# Altium integrated library Micron Memory SDRAM.IntLib: 192 symbols (part 36 of 38)
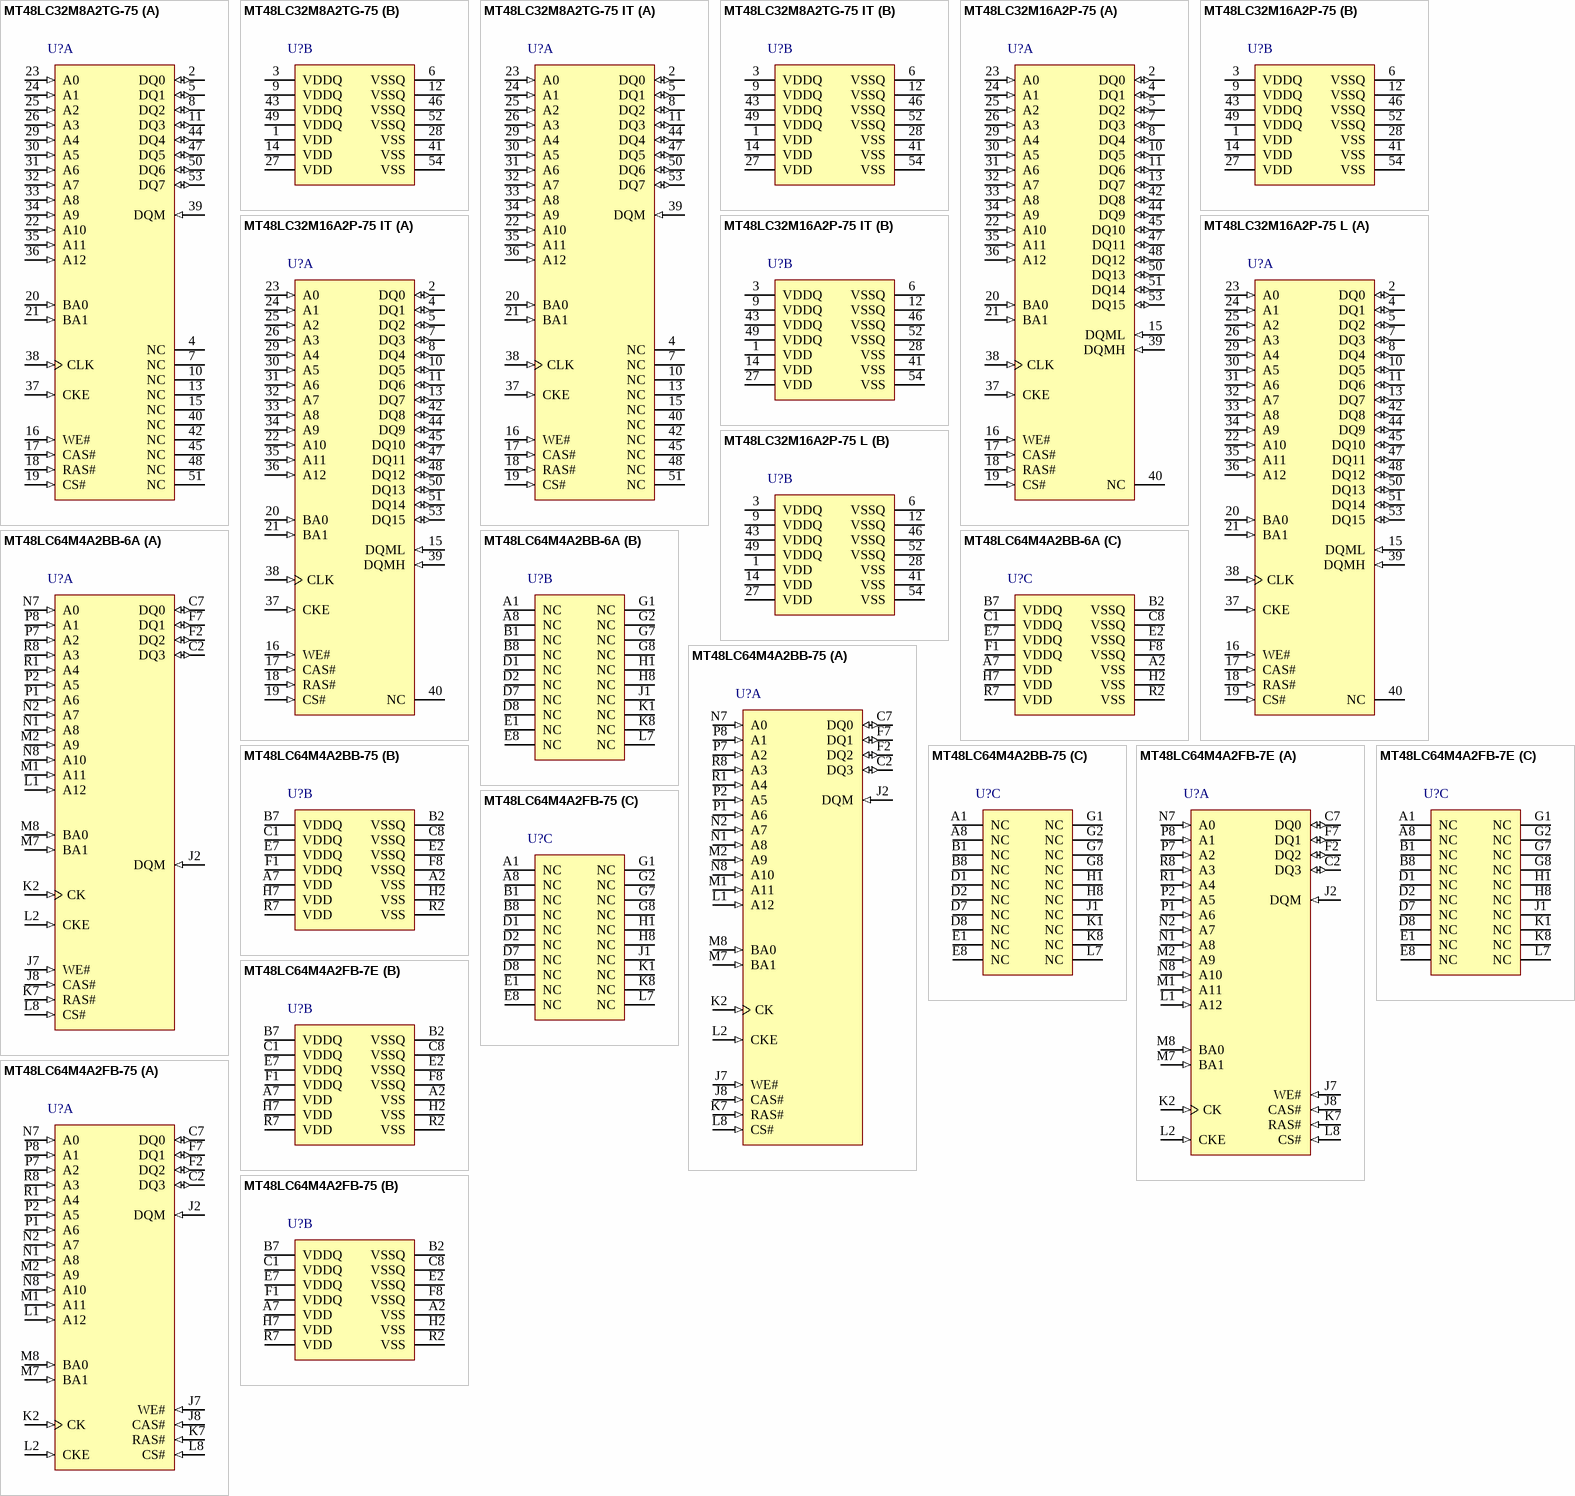
[diagram p55: symbols MT48LC32M8A2TG-75 to MT48LC64M4A2FB-75]

## MT48LC64M4A2BB-6A
designator U?
256Mb PC133 SDR SDRAM, 64Mb x 4, 6ns, 3.3V, 54-Ball FBGA, Pb-Free; Manufacturer: Micron; PartNumber: MT48LC64M4A2BB-6A; CL: CL = 3; Clock Rate: 166 MHz; DatasheetVersion: Rev.Q; PackageVersion: Rev.Q; PackageReference: MICT-BB-60; PackageDescription: 60-Ball Fine-Pitch Ball Grid Array, 16 x 8 mm, Pitch 0.8 mm; Cycle Time: 6ns; Data Rate: PC133; Density: 256Mb; Depth: 64Mb; RoHS: Yes; Voltage: 3.3V; Width: x4; Mounting Technology: Surface Mount; ComponentLink1Description: Manufacturer URL; ComponentLink1URL: http://www.micron.com/; ComponentLink2Description: Datasheet; ComponentLink2URL: http://www.micron.com/~/media/Documents/Products/Data%20Sheet/DRAM/256Mb_sdr.pdf; ComponentLink3Description: Package Specification; ComponentLink3URL: http://www.micron.com/~/media/Documents/Products/Data%20Sheet/DRAM/256Mb_sdr.pdf
footprint MICT-BB-60 (BGA, 60-Balls, Body 16x8mm, Pitch 0.8mm)
part A pins: C2 DQ3 (io) "Data input/output: Data bus for x4.", C7 DQ0 (io) "Data input/output: Data bus for x4.", F2 DQ2 (io) "Data input/output: Data bus for x4.", F7 DQ1 (io) "Data input/output: Data bus for x4.", J2 DQM (in) "Input/output mask: DQM is sampled HIGH and is an input mask signal for write accesses and an output enable signal for read accesses. Input data is masked during a WRITE cycle. The output buffers are High-Z (two-clock (See Datasheet)", J7 WE# (in) "Command inputs: RAS#, CAS#, and WE# (along with CS#) define the command being entered.", J8 CAS# (in) "Command inputs: RAS#, CAS#, and WE# (along with CS#) define the command being entered.", K2 CK (in) "Clock: CLK is driven by the system clock. All SDRAM input signals are sampled on the positive edge of CLK. CLK also increments the internal burst counter and controls the output registers.", K7 RAS# (in) "Command inputs: RAS#, CAS#, and WE# (along with CS#) define the command being entered.", L1 A12 (in) "Address inputs: A[12:0] are sampled during the ACTIVE command (row address A[12:0]) and READ or WRITE command (column address A[9:0] and A11 for x4; A[9:0] for x8; A[8:0] for x16;with A10 defining auto precharge) to select (See Datasheet)", L2 CKE (in) "Clock enable: CKE activates (HIGH) and deactivates (LOW) the CLK signal. Deactivating the clock provides precharge power-down and SELF REFRESH operation (all banks idle), active power-down (row active in any bank), or CLOCK (See Datasheet)", L8 CS# (in) "Chip select: CS# enables (registered LOW) and disables (registered HIGH) the command decoder.All commands are masked when CS# is registered HIGH, but READ/WRITE bursts already in progress will continue, and DQM operation (See Datasheet)", M1 A11 (in) "Address inputs: A[12:0] are sampled during the ACTIVE command (row address A[12:0]) and READ or WRITE command (column address A[9:0] and A11 for x4; A[9:0] for x8; A[8:0] for x16;with A10 defining auto precharge) to select (See Datasheet)", M2 A9 (in) "Address inputs: A[12:0] are sampled during the ACTIVE command (row address A[12:0]) and READ or WRITE command (column address A[9:0] and A11 for x4; A[9:0] for x8; A[8:0] for x16;with A10 defining auto precharge) to select (See Datasheet)", M7 BA1 (in) "Bank address input(s): BA[1:0] define to which bank the ACTIVE, READ, WRITE, or PRECHARGE command is being applied.", M8 BA0 (in) "Bank address input(s): BA[1:0] define to which bank the ACTIVE, READ, WRITE, or PRECHARGE command is being applied.", N1 A8 (in) "Address inputs: A[12:0] are sampled during the ACTIVE command (row address A[12:0]) and READ or WRITE command (column address A[9:0] and A11 for x4; A[9:0] for x8; A[8:0] for x16;with A10 defining auto precharge) to select (See Datasheet)", N2 A7 (in) "Address inputs: A[12:0] are sampled during the ACTIVE command (row address A[12:0]) and READ or WRITE command (column address A[9:0] and A11 for x4; A[9:0] for x8; A[8:0] for x16;with A10 defining auto precharge) to select (See Datasheet)", N7 A0 (in) "Address inputs: A[12:0] are sampled during the ACTIVE command (row address A[12:0]) and READ or WRITE command (column address A[9:0] and A11 for x4; A[9:0] for x8; A[8:0] for x16;with A10 defining auto precharge) to select (See Datasheet)", N8 A10 (in) "Address inputs: A[12:0] are sampled during the ACTIVE command (row address A[12:0]) and READ or WRITE command (column address A[9:0] and A11 for x4; A[9:0] for x8; A[8:0] for x16;with A10 defining auto precharge) to select (See Datasheet)", P1 A6 (in) "Address inputs: A[12:0] are sampled during the ACTIVE command (row address A[12:0]) and READ or WRITE command (column address A[9:0] and A11 for x4; A[9:0] for x8; A[8:0] for x16;with A10 defining auto precharge) to select (See Datasheet)", P2 A5 (in) "Address inputs: A[12:0] are sampled during the ACTIVE command (row address A[12:0]) and READ or WRITE command (column address A[9:0] and A11 for x4; A[9:0] for x8; A[8:0] for x16;with A10 defining auto precharge) to select (See Datasheet)", P7 A2 (in) "Address inputs: A[12:0] are sampled during the ACTIVE command (row address A[12:0]) and READ or WRITE command (column address A[9:0] and A11 for x4; A[9:0] for x8; A[8:0] for x16;with A10 defining auto precharge) to select (See Datasheet)", P8 A1 (in) "Address inputs: A[12:0] are sampled during the ACTIVE command (row address A[12:0]) and READ or WRITE command (column address A[9:0] and A11 for x4; A[9:0] for x8; A[8:0] for x16;with A10 defining auto precharge) to select (See Datasheet)", R1 A4 (in) "Address inputs: A[12:0] are sampled during the ACTIVE command (row address A[12:0]) and READ or WRITE command (column address A[9:0] and A11 for x4; A[9:0] for x8; A[8:0] for x16;with A10 defining auto precharge) to select (See Datasheet)", R8 A3 (in) "Address inputs: A[12:0] are sampled during the ACTIVE command (row address A[12:0]) and READ or WRITE command (column address A[9:0] and A11 for x4; A[9:0] for x8; A[8:0] for x16;with A10 defining auto precharge) to select (See Datasheet)"
part B pins: A1 NC "These should be left unconnected. For x4 and x8 parts, G1 is a no connect, but may be used as A12 in future designs.", A8 NC "These should be left unconnected. For x4 and x8 parts, G1 is a no connect, but may be used as A12 in future designs.", B1 NC "These should be left unconnected. For x4 and x8 parts, G1 is a no connect, but may be used as A12 in future designs.", B8 NC "These should be left unconnected. For x4 and x8 parts, G1 is a no connect, but may be used as A12 in future designs.", D1 NC "These should be left unconnected. For x4 and x8 parts, G1 is a no connect, but may be used as A12 in future designs.", D2 NC "These should be left unconnected. For x4 and x8 parts, G1 is a no connect, but may be used as A12 in future designs.", D7 NC "These should be left unconnected. For x4 and x8 parts, G1 is a no connect, but may be used as A12 in future designs.", D8 NC "These should be left unconnected. For x4 and x8 parts, G1 is a no connect, but may be used as A12 in future designs.", E1 NC "These should be left unconnected. For x4 and x8 parts, G1 is a no connect, but may be used as A12 in future designs.", E8 NC "These should be left unconnected. For x4 and x8 parts, G1 is a no connect, but may be used as A12 in future designs.", G1 NC "These should be left unconnected. For x4 and x8 parts, G1 is a no connect, but may be used as A12 in future designs.", G2 NC "These should be left unconnected. For x4 and x8 parts, G1 is a no connect, but may be used as A12 in future designs.", G7 NC "These should be left unconnected. For x4 and x8 parts, G1 is a no connect, but may be used as A12 in future designs.", G8 NC "These should be left unconnected. For x4 and x8 parts, G1 is a no connect, but may be used as A12 in future designs.", H1 NC "These should be left unconnected. For x4 and x8 parts, G1 is a no connect, but may be used as A12 in future designs.", H8 NC "These should be left unconnected. For x4 and x8 parts, G1 is a no connect, but may be used as A12 in future designs.", J1 NC "These should be left unconnected. For x4 and x8 parts, G1 is a no connect, but may be used as A12 in future designs.", K1 NC "These should be left unconnected. For x4 and x8 parts, G1 is a no connect, but may be used as A12 in future designs.", K8 NC "These should be left unconnected. For x4 and x8 parts, G1 is a no connect, but may be used as A12 in future designs.", L7 NC "These should be left unconnected. For x4 and x8 parts, G1 is a no connect, but may be used as A12 in future designs."
part C pins: A2 VSS (power) "Ground.", A7 VDD (power) "Power supply: +3.3V +/-0.3V.", B2 VSSQ (power) "DQ ground: DQ ground to the die for improved noise immunity.", B7 VDDQ (power) "DQ power: DQ power to the die for improved noise immunity.", C1 VDDQ (power) "DQ power: DQ power to the die for improved noise immunity.", C8 VSSQ (power) "DQ ground: DQ ground to the die for improved noise immunity.", E2 VSSQ (power) "DQ ground: DQ ground to the die for improved noise immunity.", E7 VDDQ (power) "DQ power: DQ power to the die for improved noise immunity.", F1 VDDQ (power) "DQ power: DQ power to the die for improved noise immunity.", F8 VSSQ (power) "DQ ground: DQ ground to the die for improved noise immunity.", H2 VSS (power) "Ground.", H7 VDD (power) "Power supply: +3.3V +/-0.3V.", R2 VSS (power) "Ground.", R7 VDD (power) "Power supply: +3.3V +/-0.3V."

## MT48LC64M4A2BB-75
designator U?
256Mb PC133 SDR SDRAM, 64Mb x 4, 7.5ns, 3.3V, 0 to 70 degC, 60-Ball FBGA, Pb-Free; Manufacturer: Micron; PartNumber: MT48LC64M4A2BB-75; CL: CL = 3; Clock Rate: 133 MHz; Op. Temp.: 0C to +70C; DatasheetVersion: Rev.Q; PackageVersion: Rev.Q; PackageReference: MICT-BB-60; PackageDescription: 60-Ball Fine-Pitch Ball Grid Array, 16 x 8 mm, Pitch 0.8 mm; Cycle Time: 7.5ns; Data Rate: PC133; Density: 256Mb; Depth: 64Mb; RoHS: Yes; Voltage: 3.3V; Width: x4; Mounting Technology: Surface Mount; ComponentLink1Description: Manufacturer URL; ComponentLink1URL: http://www.micron.com/; ComponentLink2Description: Datasheet; ComponentLink2URL: http://www.micron.com/~/media/Documents/Products/Data%20Sheet/DRAM/256Mb_sdr.pdf; ComponentLink3Description: Package Specification; ComponentLink3URL: http://www.micron.com/~/media/Documents/Products/Data%20Sheet/DRAM/256Mb_sdr.pdf
footprint MICT-BB-60 (BGA, 60-Balls, Body 16x8mm, Pitch 0.8mm)
part A pins: C2 DQ3 (io) "Data input/output: Data bus for x4.", C7 DQ0 (io) "Data input/output: Data bus for x4.", F2 DQ2 (io) "Data input/output: Data bus for x4.", F7 DQ1 (io) "Data input/output: Data bus for x4.", J2 DQM (in) "Input/output mask: DQM is sampled HIGH and is an input mask signal for write accesses and an output enable signal for read accesses. Input data is masked during a WRITE cycle. The output buffers are High-Z (two-clock (See Datasheet)", J7 WE# (in) "Command inputs: RAS#, CAS#, and WE# (along with CS#) define the command being entered.", J8 CAS# (in) "Command inputs: RAS#, CAS#, and WE# (along with CS#) define the command being entered.", K2 CK (in) "Clock: CLK is driven by the system clock. All SDRAM input signals are sampled on the positive edge of CLK. CLK also increments the internal burst counter and controls the output registers.", K7 RAS# (in) "Command inputs: RAS#, CAS#, and WE# (along with CS#) define the command being entered", L1 A12 (in) "Address inputs: A[12:0] are sampled during the ACTIVE command (row address A[12:0]) and READ or WRITE command (column address A[9:0] and A11 for x4; A[9:0] for x8; A[8:0] for x16; with A10 defining auto precharge) to select (See Datasheet)", L2 CKE (in) "Clock enable: CKE activates (HIGH) and deactivates (LOW) the CLK signal. Deactivating the clock provides precharge power-down and SELF REFRESH operation (all banks idle), active power-down (row active in any bank), or CLOCK (See Datasheet)", L8 CS# (in) "Chip select: CS# enables (registered LOW) and disables (registered HIGH) the command decod er. All commands are masked when CS# is registered HIGH, but READ/WRITE bursts already in progress will continue, and DQM operation (See Datasheet)", M1 A11 (in) "Address inputs: A[12:0] are sampled during the ACTIVE command (row address A[12:0]) and READ or WRITE command (column address A[9:0] and A11 for x4; A[9:0] for x8; A[8:0] for x16; with A10 defining auto precharge) to select (See Datasheet)", M2 A9 (in) "Address inputs: A[12:0] are sampled during the ACTIVE command (row address A[12:0]) and READ or WRITE command (column address A[9:0] and A11 for x4; A[9:0] for x8; A[8:0] for x16; with A10 defining auto precharge) to select (See Datasheet)", M7 BA1 (in) "Bank address input(s): BA[1:0] define to which bank the ACTIVE, READ, WRITE, or PRECHARGE command is being applied.", M8 BA0 (in) "Bank address input(s): BA[1:0] define to which bank the ACTIVE, READ, WRITE, or PRECHARGE command is being applied.", N1 A8 (in) "Address inputs: A[12:0] are sampled during the ACTIVE command (row address A[12:0]) and READ or WRITE command (column address A[9:0] and A11 for x4; A[9:0] for x8; A[8:0] for x16; with A10 defining auto precharge) to select (See Datasheet)", N2 A7 (in) "Address inputs: A[12:0] are sampled during the ACTIVE command (row address A[12:0]) and READ or WRITE command (column address A[9:0] and A11 for x4; A[9:0] for x8; A[8:0] for x16; with A10 defining auto precharge) to select (See Datasheet)", N7 A0 (in) "Address inputs: A[12:0] are sampled during the ACTIVE command (row address A[12:0]) and READ or WRITE command (column address A[9:0] and A11 for x4; A[9:0] for x8; A[8:0] for x16; with A10 defining auto precharge) to select (See Datasheet)", N8 A10 (in) "Address inputs: A[12:0] are sampled during the ACTIVE command (row address A[12:0]) and READ or WRITE command (column address A[9:0] and A11 for x4; A[9:0] for x8; A[8:0] for x16; with A10 defining auto precharge) to select (See Datasheet)", P1 A6 (in) "Address inputs: A[12:0] are sampled during the ACTIVE command (row address A[12:0]) and READ or WRITE command (column address A[9:0] and A11 for x4; A[9:0] for x8; A[8:0] for x16; with A10 defining auto precharge) to select (See Datasheet)", P2 A5 (in) "Address inputs: A[12:0] are sampled during the ACTIVE command (row address A[12:0]) and READ or WRITE command (column address A[9:0] and A11 for x4; A[9:0] for x8; A[8:0] for x16; with A10 defining auto precharge) to select (See Datasheet)", P7 A2 (in) "Address inputs: A[12:0] are sampled during the ACTIVE command (row address A[12:0]) and READ or WRITE command (column address A[9:0] and A11 for x4; A[9:0] for x8; A[8:0] for x16; with A10 defining auto precharge) to select (See Datasheet)", P8 A1 (in) "Address inputs: A[12:0] are sampled during the ACTIVE command (row address A[12:0]) and READ or WRITE command (column address A[9:0] and A11 for x4; A[9:0] for x8; A[8:0] for x16; with A10 defining auto precharge) to select (See Datasheet)", R1 A4 (in) "Address inputs: A[12:0] are sampled during the ACTIVE command (row address A[12:0]) and READ or WRITE command (column address A[9:0] and A11 for x4; A[9:0] for x8; A[8:0] for x16; with A10 defining auto precharge) to select (See Datasheet)", R8 A3 (in) "Address inputs: A[12:0] are sampled during the ACTIVE command (row address A[12:0]) and READ or WRITE command (column address A[9:0] and A11 for x4; A[9:0] for x8; A[8:0] for x16; with A10 defining auto precharge) to select (See Datasheet)"
part B pins: A2 VSS (power) "Ground.", A7 VDD (power) "Power supply: +3.3V +/-0.3V.", B2 VSSQ (power) "DQ ground: DQ ground to the die for improved noise immunity.", B7 VDDQ (power) "DQ power: DQ power to the die for improved noise immunity.", C1 VDDQ (power) "DQ power: DQ power to the die for improved noise immunity.", C8 VSSQ (power) "DQ ground: DQ ground to the die for improved noise immunity.", E2 VSSQ (power) "DQ ground: DQ ground to the die for improved noise immunity.", E7 VDDQ (power) "DQ power: DQ power to the die for improved noise immunity.", F1 VDDQ (power) "DQ power: DQ power to the die for improved noise immunity.", F8 VSSQ (power) "DQ ground: DQ ground to the die for improved noise immunity", H2 VSS (power) "Ground.", H7 VDD (power) "Power supply: +3.3V +/-0.3V.", R2 VSS (power) "Ground.", R7 VDD (power) "Power supply: +3.3V +/-0.3V."
part C pins: A1 NC "No connect for x16, x8, x4: These pins should be left unconnected", A8 NC "No connect for x16, x8, x4: These pins should be left unconnected.", B1 NC "No connect for x16, x8, x4: These pins should be left unconnected.", B8 NC "No connect for x16, x8, x4: These pins should be left unconnected.", D1 NC "No connect for x16, x8, x4: These pins should be left unconnected.", D2 NC "No connect for x16, x8, x4: These pins should be left unconnected.", D7 NC "No connect for x16, x8, x4: These pins should be left unconnected.", D8 NC "No connect for x16, x8, x4: These pins should be left unconnected.", E1 NC "No connect for x16, x8, x4: These pins should be left unconnected.", E8 NC "No connect for x16, x8, x4: These pins should be left unconnected.", G1 NC "No connect for x16, x8, x4: These pins should be left unconnected.", G2 NC "No connect for x16, x8, x4: These pins should be left unconnected.", G7 NC "No connect for x16, x8, x4: These pins should be left unconnected.", G8 NC "No connect for x16, x8, x4: These pins should be left unconnected.", H1 NC "No connect for x16, x8, x4: These pins should be left unconnected.", H8 NC "No connect for x16, x8, x4: These pins should be left unconnected.", J1 NC "No connect for x16, x8, x4: These pins should be left unconnected.", K1 NC "No connect for x16, x8, x4: These pins should be left unconnected.", K8 NC "No connect for x16, x8, x4: These pins should be left unconnected.", L7 NC "No connect for x16, x8, x4: These pins should be left unconnected."

## MT48LC64M4A2FB-7E
designator U?
256Mb PC133 SDR SDRAM, 64Mb x 4, 7.5ns, 3.3V, 0 to 70 degC, 60-Ball FBGA; Manufacturer: Micron; PartNumber: MT48LC64M4A2FB-7E; CL: CL = 2; Clock Rate: 133 MHz; Op. Temp.: 0C to +70C; DatasheetVersion: Rev.Q; PackageVersion: Rev.Q; PackageReference: MICT-FB-60; PackageDescription: 60-Ball Fine-Pitch Ball Grid Array, 16 x 8 mm, Pitch 0.8 mm; Cycle Time: 7.5ns; Data Rate: PC133; Density: 256Mb; Depth: 64Mb; RoHS: 5/6; Voltage: 3.3V; Width: x4; Mounting Technology: Surface Mount; ComponentLink1Description: Manufacturer URL; ComponentLink1URL: http://www.micron.com/; ComponentLink2Description: Datasheet; ComponentLink2URL: http://www.micron.com/~/media/Documents/Products/Data%20Sheet/DRAM/256Mb_sdr.pdf; ComponentLink3Description: Package Specification; ComponentLink3URL: http://www.micron.com/~/media/Documents/Products/Data%20Sheet/DRAM/256Mb_sdr.pdf
footprint MICT-FB-60 (BGA, 60-Balls, Body 16x8mm, Pitch 0.8mm)
part A pins: C2 DQ3 (io) "Data input/output: Data bus for x4.", C7 DQ0 (io) "Data input/output: Data bus for x4.", F2 DQ2 (io) "Data input/output: Data bus for x4.", F7 DQ1 (io) "Data input/output: Data bus for x4.", J2 DQM (in) "Input/output mask: DQM is sampled HIGH and is an input mask signal for write accesses and an output enable signal for read accesses. Input data is masked during a WRITE cycle. The output buffers are High-Z (two-clock (See Datasheet)", J7 WE# (in) "Command inputs: RAS#, CAS#, and WE# (along with CS#) define the command being entered.", J8 CAS# (in) "Command inputs: RAS#, CAS#, and WE# (along with CS#) define the command being entered.", K2 CK (in) "Clock: CLK is driven by the system clock. All SDRAM input signals are sampled on the positive edge of CLK. CLK also increments the internal burst counter and controls the output registers.", K7 RAS# (in) "Command inputs: RAS#, CAS#, and WE# (along with CS#) define the command being entered", L1 A12 (in) "Address inputs: A[12:0] are sampled during the ACTIVE command (row address A[12:0]) and READ or WRITE command (column address A[9:0] and A11 for x4; A[9:0] for x8; A[8:0] for x16; with A10 defining auto precharge) to select (See Datasheet)", L2 CKE (in) "Clock enable: CKE activates (HIGH) and deactivates (LOW) the CLK signal. Deactivating the clock provides precharge power-down and SELF REFRESH operation (all banks idle), active power-down (row active in any bank), or CLOCK (See Datasheet)", L8 CS# (in) "Chip select: CS# enables (registered LOW) and disables (registered HIGH) the command decoder. All commands are masked when CS# is registered HIGH, but READ/WRITE bursts already in progress will continue, and DQM operation (See Datasheet)", M1 A11 (in) "Address inputs: A[12:0] are sampled during the ACTIVE command (row address A[12:0]) and READ or WRITE command (column address A[9:0] and A11 for x4; A[9:0] for x8; A[8:0] for x16; with A10 defining auto precharge) to select (See Datasheet)", M2 A9 (in) "Address inputs: A[12:0] are sampled during the ACTIVE command (row address A[12:0]) and READ or WRITE command (column address A[9:0] and A11 for x4; A[9:0] for x8; A[8:0] for x16; with A10 defining auto precharge) to select (See Datasheet)", M7 BA1 (in) "Bank address input(s): BA[1:0] define to which bank the ACTIVE, READ, WRITE, or PRECHARGE command is being applied.", M8 BA0 (in) "Bank address input(s): BA[1:0] define to which bank the ACTIVE, READ, WRITE, or PRECHARGE command is being applied.", N1 A8 (in) "Address inputs: A[12:0] are sampled during the ACTIVE command (row address A[12:0]) and READ or WRITE command (column address A[9:0] and A11 for x4; A[9:0] for x8; A[8:0] for x16; with A10 defining auto precharge) to select (See Datasheet)", N2 A7 (in) "Address inputs: A[12:0] are sampled during the ACTIVE command (row address A[12:0]) and READ or WRITE command (column address A[9:0] and A11 for x4; A[9:0] for x8; A[8:0] for x16; with A10 defining auto precharge) to select (See Datasheet)", N7 A0 (in) "Address inputs: A[12:0] are sampled during the ACTIVE command (row address A[12:0]) and READ or WRITE command (column address A[9:0] and A11 for x4; A[9:0] for x8; A[8:0] for x16; with A10 defining auto precharge) to select (See Datasheet)", N8 A10 (in) "Address inputs: A[12:0] are sampled during the ACTIVE command (row address A[12:0]) and READ or WRITE command (column address A[9:0] and A11 for x4; A[9:0] for x8; A[8:0] for x16; with A10 defining auto precharge) to select (See Datasheet)", P1 A6 (in) "Address inputs: A[12:0] are sampled during the ACTIVE command (row address A[12:0]) and READ or WRITE command (column address A[9:0] and A11 for x4; A[9:0] for x8; A[8:0] for x16; with A10 defining auto precharge) to select (See Datasheet)", P2 A5 (in) "Address inputs: A[12:0] are sampled during the ACTIVE command (row address A[12:0]) and READ or WRITE command (column address A[9:0] and A11 for x4; A[9:0] for x8; A[8:0] for x16; with A10 defining auto precharge) to select (See Datasheet)", P7 A2 (in) "Address inputs: A[12:0] are sampled during the ACTIVE command (row address A[12:0]) and READ or WRITE command (column address A[9:0] and A11 for x4; A[9:0] for x8; A[8:0] for x16; with A10 defining auto precharge) to select (See Datasheet)", P8 A1 (in) "Address inputs: A[12:0] are sampled during the ACTIVE command (row address A[12:0]) and READ or WRITE command (column address A[9:0] and A11 for x4; A[9:0] for x8; A[8:0] for x16; with A10 defining auto precharge) to select (See Datasheet)", R1 A4 (in) "Address inputs: A[12:0] are sampled during the ACTIVE command (row address A[12:0]) and READ or WRITE command (column address A[9:0] and A11 for x4; A[9:0] for x8; A[8:0] for x16; with A10 defining auto precharge) to select (See Datasheet)", R8 A3 (in) "Address inputs: A[12:0] are sampled during the ACTIVE command (row address A[12:0]) and READ or WRITE command (column address A[9:0] and A11 for x4; A[9:0] for x8; A[8:0] for x16; with A10 defining auto precharge) to select (See Datasheet)"
part B pins: A2 VSS (power) "Ground.", A7 VDD (power) "Power supply: +3.3V +/-0.3V.", B2 VSSQ (power) "DQ ground: DQ ground to the die for improved noise immunity", B7 VDDQ (power) "DQ power: DQ power to the die for improved noise immunity.", C1 VDDQ (power) "DQ power: DQ power to the die for improved noise immunity.", C8 VSSQ (power) "DQ ground: DQ ground to the die for improved noise immunity.", E2 VSSQ (power) "DQ ground: DQ ground to the die for improved noise immunity.", E7 VDDQ (power) "DQ power: DQ power to the die for improved noise immunity.", F1 VDDQ (power) "DQ power: DQ power to the die for improved noise immunity.", F8 VSSQ (power) "DQ ground: DQ ground to the die for improved noise immunity", H2 VSS (power) "Ground.", H7 VDD (power) "Power supply: +3.3V +/-0.3V.", R2 VSS (power) "Ground.", R7 VDD (power) "Power supply: +3.3V +/-0.3V."
part C pins: A1 NC "These should be left unconnected. For x4 and x8 parts, G1 is a no connect, but may be used as A12 in future designs.", A8 NC "These should be left unconnected. For x4 and x8 parts, G1 is a no connect, but may be used as A12 in future designs.", B1 NC "These should be left unconnected. For x4 and x8 parts, G1 is a no connect, but may be used as A12 in future designs.", B8 NC "These should be left unconnected. For x4 and x8 parts, G1 is a no connect, but may be used as A12 in future designs.", D1 NC "These should be left unconnected. For x4 and x8 parts, G1 is a no connect, but may be used as A12 in future designs.", D2 NC "These should be left unconnected. For x4 and x8 parts, G1 is a no connect, but may be used as A12 in future designs.", D7 NC "These should be left unconnected. For x4 and x8 parts, G1 is a no connect, but may be used as A12 in future designs.", D8 NC "These should be left unconnected. For x4 and x8 parts, G1 is a no connect, but may be used as A12 in future designs.", E1 NC "These should be left unconnected. For x4 and x8 parts, G1 is a no connect, but may be used as A12 in future designs.", E8 NC "These should be left unconnected. For x4 and x8 parts, G1 is a no connect, but may be used as A12 in future designs.", G1 NC "These should be left unconnected. For x4 and x8 parts, G1 is a no connect, but may be used as A12 in future designs.", G2 NC "These should be left unconnected. For x4 and x8 parts, G1 is a no connect, but may be used as A12 in future designs.", G7 NC "These should be left unconnected. For x4 and x8 parts, G1 is a no connect, but may be used as A12 in future designs.", G8 NC "These should be left unconnected. For x4 and x8 parts, G1 is a no connect, but may be used as A12 in future designs.", H1 NC "These should be left unconnected. For x4 and x8 parts, G1 is a no connect, but may be used as A12 in future designs.", H8 NC "These should be left unconnected. For x4 and x8 parts, G1 is a no connect, but may be used as A12 in future designs.", J1 NC "These should be left unconnected. For x4 and x8 parts, G1 is a no connect, but may be used as A12 in future designs.", K1 NC "These should be left unconnected. For x4 and x8 parts, G1 is a no connect, but may be used as A12 in future designs.", K8 NC "These should be left unconnected. For x4 and x8 parts, G1 is a no connect, but may be used as A12 in future designs.", L7 NC "These should be left unconnected. For x4 and x8 parts, G1 is a no connect, but may be used as A12 in future designs."

## MT48LC64M4A2FB-75
designator U?
256Mb PC133 SDR SDRAM, 64Mb x 4, 7.5ns, 3.3V, 0 to 70 degC, 60-Ball FBGA; Manufacturer: Micron; PartNumber: MT48LC64M4A2FB-75; CL: CL = 3; Clock Rate: 133 MHz; Op. Temp.: 0C to +70C; DatasheetVersion: Rev.Q; PackageVersion: Rev.Q; PackageReference: MICT-FB-60; PackageDescription: 60-Ball Fine-Pitch Ball Grid Array, 16 x 8 mm, Pitch 0.8 mm; Cycle Time: 7.5ns; Data Rate: PC133; Density: 256Mb; Depth: 64Mb; RoHS: 5/6; Voltage: 3.3V; Width: x4; Mounting Technology: Surface Mount; ComponentLink1Description: Manufacturer URL; ComponentLink1URL: http://www.micron.com/; ComponentLink2Description: Datasheet; ComponentLink2URL: http://www.micron.com/~/media/Documents/Products/Data%20Sheet/DRAM/256Mb_sdr.pdf; ComponentLink3Description: Package Specification; ComponentLink3URL: http://www.micron.com/~/media/Documents/Products/Data%20Sheet/DRAM/256Mb_sdr.pdf
footprint MICT-FB-60 (BGA, 60-Balls, Body 16x8mm, Pitch 0.8mm)
part A pins: C2 DQ3 (io) "Data input/output: Data bus for x4.", C7 DQ0 (io) "Data input/output: Data bus for x4.", F2 DQ2 (io) "Data input/output: Data bus for x4.", F7 DQ1 (io) "Data input/output: Data bus for x4.", J2 DQM (in) "Input/output mask: DQM is sampled HIGH and is an input mask signal for write accesses and an output enable signal for read accesses. Input data is masked during a WRITE cycle. The output buffers are High-Z (two-clock (See Datasheet)", J7 WE# (in) "Command inputs: RAS#, CAS#, and WE# (along with CS#) define the command being entered.", J8 CAS# (in) "Command inputs: RAS#, CAS#, and WE# (along with CS#) define the command being entered.", K2 CK (in) "Clock: CLK is driven by the system clock. All SDRAM input signals are sampled on the positive edge of CLK. CLK also increments the internal burst counter and controls the output registers.", K7 RAS# (in) "Command inputs: RAS#, CAS#, and WE# (along with CS#) define the command being entered", L1 A12 (in) "Address inputs: A[12:0] are sampled during the ACTIVE command (row address A[12:0]) and READ or WRITE command (column address A[9:0] and A11 for x4; A[9:0] for x8; A[8:0] for x16; with A10 defining auto precharge) to select (See Datasheet)", L2 CKE (in) "Clock enable: CKE activates (HIGH) and deactivates (LOW) the CLK signal. Deactivating the clock provides precharge power-down and SELF REFRESH operation (all banks idle), active power-down (row active in any bank), or CLOCK (See Datasheet)", L8 CS# (in) "Chip select: CS# enables (registered LOW) and disables (registered HIGH) the command decoder. All commands are masked when CS# is registered HIGH, but READ/WRITE bursts already in progress will continue, and DQM operation (See Datasheet)", M1 A11 (in) "Address inputs: A[12:0] are sampled during the ACTIVE command (row address A[12:0]) and READ or WRITE command (column address A[9:0] and A11 for x4; A[9:0] for x8; A[8:0] for x16; with A10 defining auto precharge) to select (See Datasheet)", M2 A9 (in) "Address inputs: A[12:0] are sampled during the ACTIVE command (row address A[12:0]) and READ or WRITE command (column address A[9:0] and A11 for x4; A[9:0] for x8; A[8:0] for x16; with A10 defining auto precharge) to select (See Datasheet)", M7 BA1 (in) "Bank address input(s): BA[1:0] define to which bank the ACTIVE, READ, WRITE, or PRECHARGE command is being applied.", M8 BA0 (in) "Bank address input(s): BA[1:0] define to which bank the ACTIVE, READ, WRITE, or PRECHARGE command is being applied.", N1 A8 (in) "Address inputs: A[12:0] are sampled during the ACTIVE command (row address A[12:0]) and READ or WRITE command (column address A[9:0] and A11 for x4; A[9:0] for x8; A[8:0] for x16; with A10 defining auto precharge) to select (See Datasheet)", N2 A7 (in) "Address inputs: A[12:0] are sampled during the ACTIVE command (row address A[12:0]) and READ or WRITE command (column address A[9:0] and A11 for x4; A[9:0] for x8; A[8:0] for x16; with A10 defining auto precharge) to select (See Datasheet)", N7 A0 (in) "Address inputs: A[12:0] are sampled during the ACTIVE command (row address A[12:0]) and READ or WRITE command (column address A[9:0] and A11 for x4; A[9:0] for x8; A[8:0] for x16; with A10 defining auto precharge) to select (See Datasheet)", N8 A10 (in) "Address inputs: A[12:0] are sampled during the ACTIVE command (row address A[12:0]) and READ or WRITE command (column address A[9:0] and A11 for x4; A[9:0] for x8; A[8:0] for x16; with A10 defining auto precharge) to select (See Datasheet)", P1 A6 (in) "Address inputs: A[12:0] are sampled during the ACTIVE command (row address A[12:0]) and READ or WRITE command (column address A[9:0] and A11 for x4; A[9:0] for x8; A[8:0] for x16; with A10 defining auto precharge) to select (See Datasheet)", P2 A5 (in) "Address inputs: A[12:0] are sampled during the ACTIVE command (row address A[12:0]) and READ or WRITE command (column address A[9:0] and A11 for x4; A[9:0] for x8; A[8:0] for x16; with A10 defining auto precharge) to select (See Datasheet)", P7 A2 (in) "Address inputs: A[12:0] are sampled during the ACTIVE command (row address A[12:0]) and READ or WRITE command (column address A[9:0] and A11 for x4; A[9:0] for x8; A[8:0] for x16; with A10 defining auto precharge) to select (See Datasheet)", P8 A1 (in) "Address inputs: A[12:0] are sampled during the ACTIVE command (row address A[12:0]) and READ or WRITE command (column address A[9:0] and A11 for x4; A[9:0] for x8; A[8:0] for x16; with A10 defining auto precharge) to select (See Datasheet)", R1 A4 (in) "Address inputs: A[12:0] are sampled during the ACTIVE command (row address A[12:0]) and READ or WRITE command (column address A[9:0] and A11 for x4; A[9:0] for x8; A[8:0] for x16; with A10 defining auto precharge) to select (See Datasheet)", R8 A3 (in) "Address inputs: A[12:0] are sampled during the ACTIVE command (row address A[12:0]) and READ or WRITE command (column address A[9:0] and A11 for x4; A[9:0] for x8; A[8:0] for x16; with A10 defining auto precharge) to select (See Datasheet)"
part B pins: A2 VSS (power) "Ground.", A7 VDD (power) "Power supply: +3.3V +/-0.3V.", B2 VSSQ (power) "DQ ground: DQ ground to the die for improved noise immunity", B7 VDDQ (power) "DQ power: DQ power to the die for improved noise immunity.", C1 VDDQ (power) "DQ power: DQ power to the die for improved noise immunity.", C8 VSSQ (power) "DQ ground: DQ ground to the die for improved noise immunity.", E2 VSSQ (power) "DQ ground: DQ ground to the die for improved noise immunity.", E7 VDDQ (power) "DQ power: DQ power to the die for improved noise immunity.", F1 VDDQ (power) "DQ power: DQ power to the die for improved noise immunity.", F8 VSSQ (power) "DQ ground: DQ ground to the die for improved noise immunity", H2 VSS (power) "Ground.", H7 VDD (power) "Power supply: +3.3V +/-0.3V.", R2 VSS (power) "Ground.", R7 VDD (power) "Power supply: +3.3V +/-0.3V."
part C pins: A1 NC "These should be left unconnected. For x4 and x8 parts, G1 is a no connect, but may be used as A12 in future designs.", A8 NC "These should be left unconnected. For x4 and x8 parts, G1 is a no connect, but may be used as A12 in future designs.", B1 NC "These should be left unconnected. For x4 and x8 parts, G1 is a no connect, but may be used as A12 in future designs.", B8 NC "These should be left unconnected. For x4 and x8 parts, G1 is a no connect, but may be used as A12 in future designs.", D1 NC "These should be left unconnected. For x4 and x8 parts, G1 is a no connect, but may be used as A12 in future designs.", D2 NC "These should be left unconnected. For x4 and x8 parts, G1 is a no connect, but may be used as A12 in future designs.", D7 NC "These should be left unconnected. For x4 and x8 parts, G1 is a no connect, but may be used as A12 in future designs.", D8 NC "These should be left unconnected. For x4 and x8 parts, G1 is a no connect, but may be used as A12 in future designs.", E1 NC "These should be left unconnected. For x4 and x8 parts, G1 is a no connect, but may be used as A12 in future designs.", E8 NC "These should be left unconnected. For x4 and x8 parts, G1 is a no connect, but may be used as A12 in future designs.", G1 NC "These should be left unconnected. For x4 and x8 parts, G1 is a no connect, but may be used as A12 in future designs.", G2 NC "These should be left unconnected. For x4 and x8 parts, G1 is a no connect, but may be used as A12 in future designs.", G7 NC "These should be left unconnected. For x4 and x8 parts, G1 is a no connect, but may be used as A12 in future designs.", G8 NC "These should be left unconnected. For x4 and x8 parts, G1 is a no connect, but may be used as A12 in future designs.", H1 NC "These should be left unconnected. For x4 and x8 parts, G1 is a no connect, but may be used as A12 in future designs.", H8 NC "These should be left unconnected. For x4 and x8 parts, G1 is a no connect, but may be used as A12 in future designs.", J1 NC "These should be left unconnected. For x4 and x8 parts, G1 is a no connect, but may be used as A12 in future designs.", K1 NC "These should be left unconnected. For x4 and x8 parts, G1 is a no connect, but may be used as A12 in future designs.", K8 NC "These should be left unconnected. For x4 and x8 parts, G1 is a no connect, but may be used as A12 in future designs.", L7 NC "These should be left unconnected. For x4 and x8 parts, G1 is a no connect, but may be used as A12 in future designs."

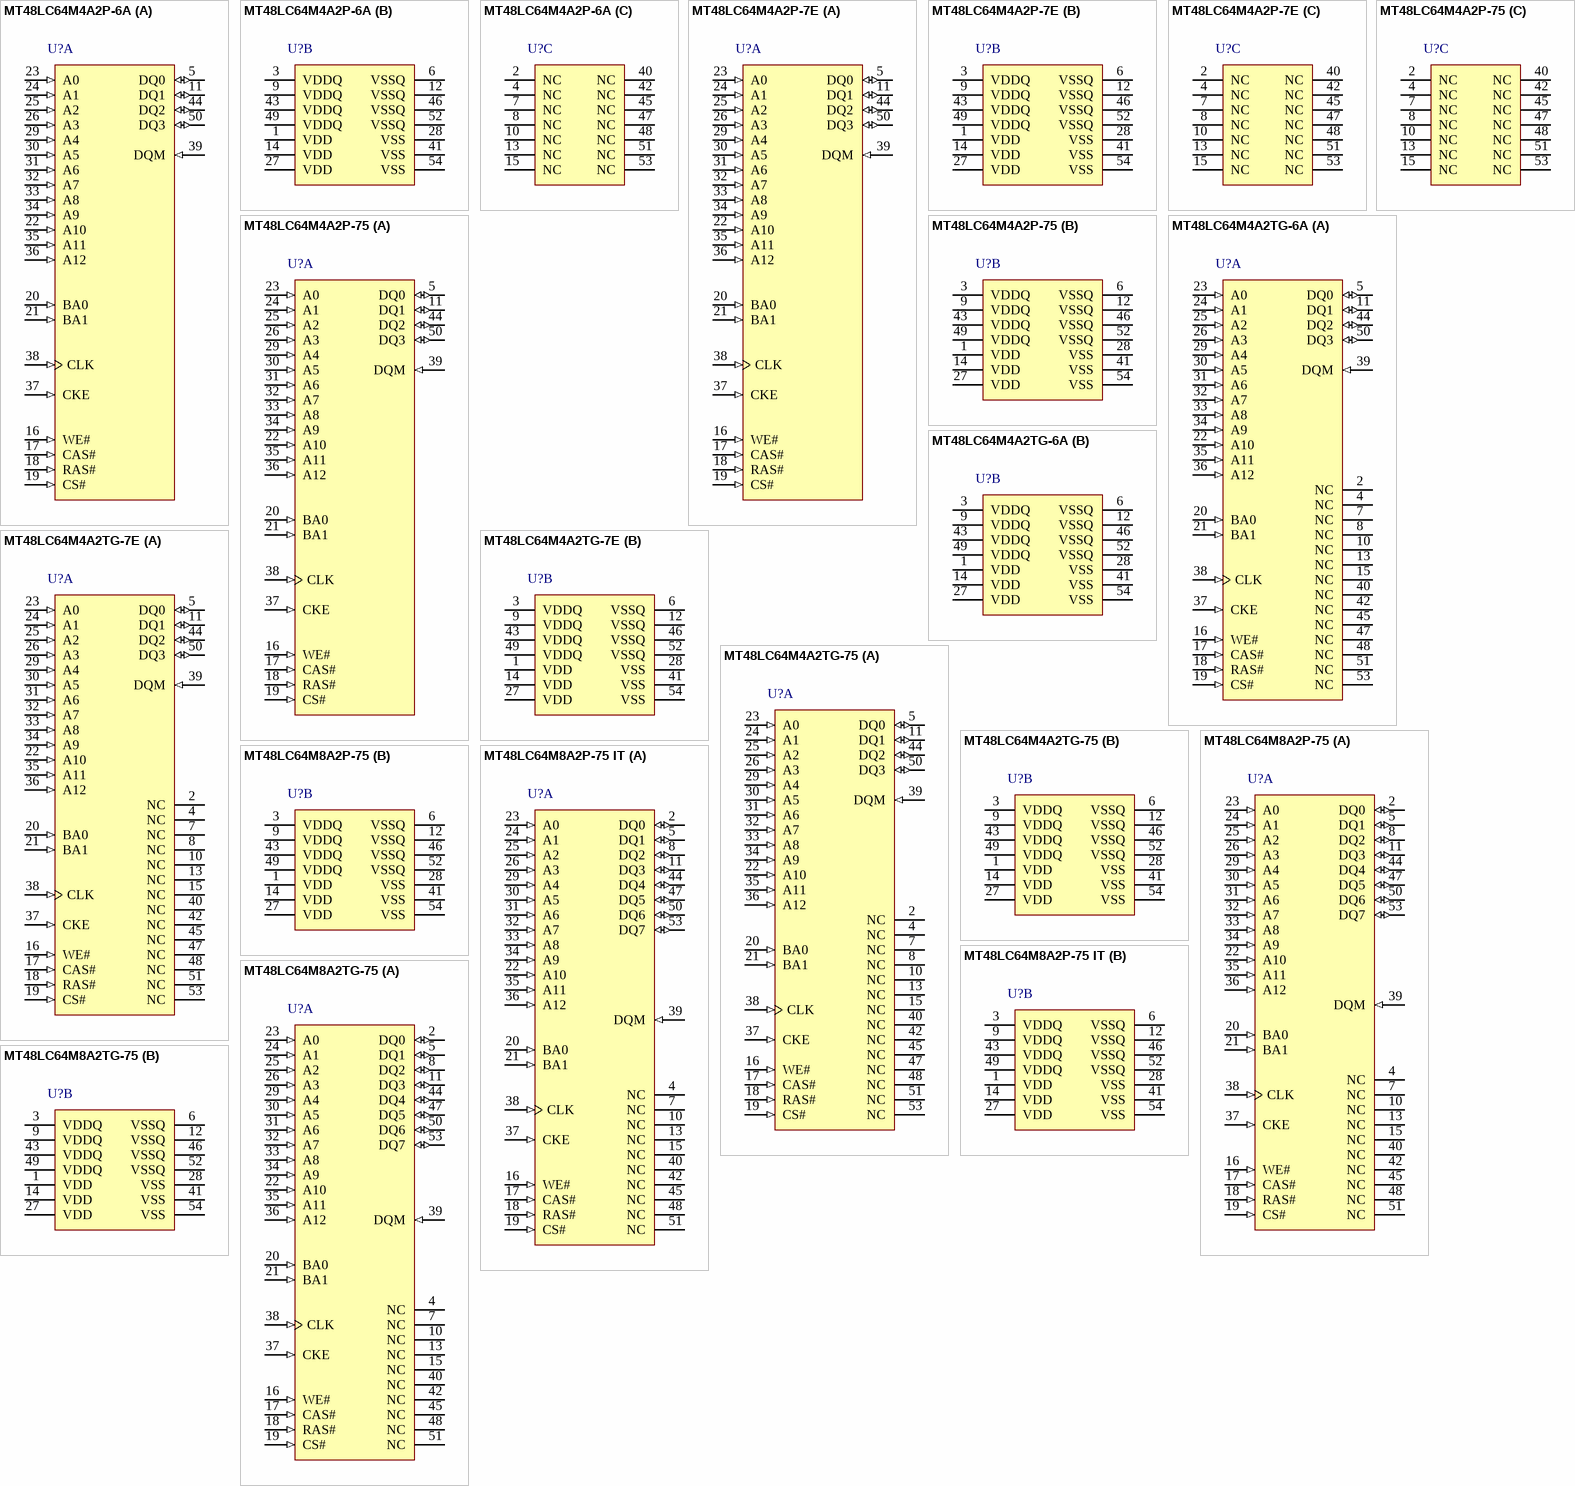
[diagram p19: symbols MT48LC64M4A2P-6A to MT48LC64M8A2TG-75]

## MT48LC64M4A2P-6A
designator U?
256Mb PC133 SDR SDRAM, 64Mb x 4, 6ns, 3.3V, 54-Pin TSOP, Pb-Free; Manufacturer: Micron; PartNumber: MT48LC64M4A2P-6A; CL: CL = 3; Clock Rate: 166 MHz; DatasheetVersion: Rev.Q; PackageVersion: Rev.Q; PackageReference: MICT-P-54; PackageDescription: 54-Pin Thin Small Outline Package, 10.16 x 22.22 mm, Pitch 0.8 mm; Cycle Time: 6ns; Data Rate: PC133; Density: 256Mb; Depth: 64Mb; RoHS: Yes; Voltage: 3.3V; Width: x4; Mounting Technology: Surface Mount; ComponentLink1Description: Manufacturer URL; ComponentLink1URL: http://www.micron.com/; ComponentLink2Description: Datasheet; ComponentLink2URL: http://www.micron.com/~/media/Documents/Products/Data%20Sheet/DRAM/256Mb_sdr.pdf; ComponentLink3Description: Package Specification; ComponentLink3URL: http://www.micron.com/~/media/Documents/Products/Data%20Sheet/DRAM/128mb_x4x8x16_sdram.pdf
footprint MICT-P-54_N (SOP, 54-Leads, Body 22.22x10.16mm, Pitch 0.8mm, IPC Medium Density)
part A pins: 5 DQ0 (io) "Data input/output: Data bus for x4.", 11 DQ1 (io) "Data input/output: Data bus for x4.", 16 WE# (in) "Command inputs: RAS#, CAS#, and WE# (along with CS#) define the command being entered.", 17 CAS# (in) "Command inputs: RAS#, CAS#, and WE# (along with CS#) define the command being entered.", 18 RAS# (in) "Command inputs: RAS#, CAS#, and WE# (along with CS#) define the command being entered.", 19 CS# (in) "Chip select: CS# enables (registered LOW) and disables (registered HIGH) the command decoder. All commands are masked when CS# is registered HIGH, but READ/WRITE bursts already in progress will continue, and DQM operation (See Datasheet)", 20 BA0 (in) "Bank address input(s): BA[1:0] define to which bank the ACTIVE, READ, WRITE, or PRECHARGE command is being applied.", 21 BA1 (in) "Bank address input(s): BA[1:0] define to which bank the ACTIVE, READ, WRITE, or PRECHARGE command is being applied.", 22 A10 (in) "Address inputs: A[12:0] are sampled during the ACTIVE command (row address A[12:0]) and READ or WRITE command (column address A[9:0] and A11 for x4; A[9:0] for x8; A[8:0] for x16; with A10 defining auto precharge) to select (See Datasheet)", 23 A0 (in) "Address inputs: A[12:0] are sampled during the ACTIVE command (row address A[12:0]) and READ or WRITE command (column address A[9:0] and A11 for x4; A[9:0] for x8; A[8:0] for x16; with A10 defining auto precharge) to select (See Datasheet)", 24 A1 (in) "Address inputs: A[12:0] are sampled during the ACTIVE command (row address A[12:0]) and READ or WRITE command (column address A[9:0] and A11 for x4; A[9:0] for x8; A[8:0] for x16; with A10 defining auto precharge) to select (See Datasheet)", 25 A2 (in) "Address inputs: A[12:0] are sampled during the ACTIVE command (row address A[12:0]) and READ or WRITE command (column address A[9:0] and A11 for x4; A[9:0] for x8; A[8:0] for x16; with A10 defining auto precharge) to select (See Datasheet)", 26 A3 (in) "Address inputs: A[12:0] are sampled during the ACTIVE command (row address A[12:0]) and READ or WRITE command (column address A[9:0] and A11 for x4; A[9:0] for x8; A[8:0] for x16; with A10 defining auto precharge) to select (See Datasheet)", 29 A4 (in) "Address inputs: A[12:0] are sampled during the ACTIVE command (row address A[12:0]) and READ or WRITE command (column address A[9:0] and A11 for x4; A[9:0] for x8; A[8:0] for x16; with A10 defining auto precharge) to select (See Datasheet)", 30 A5 (in) "Address inputs: A[12:0] are sampled during the ACTIVE command (row address A[12:0]) and READ or WRITE command (column address A[9:0] and A11 for x4; A[9:0] for x8; A[8:0] for x16; with A10 defining auto precharge) to select (See Datasheet)", 31 A6 (in) "Address inputs: A[12:0] are sampled during the ACTIVE command (row address A[12:0]) and READ or WRITE command (column address A[9:0] and A11 for x4; A[9:0] for x8; A[8:0] for x16; with A10 defining auto precharge) to select (See Datasheet)", 32 A7 (in) "Address inputs: A[12:0] are sampled during the ACTIVE command (row address A[12:0]) and READ or WRITE command (column address A[9:0] and A11 for x4; A[9:0] for x8; A[8:0] for x16; with A10 defining auto precharge) to select (See Datasheet)", 33 A8 (in) "Address inputs: A[12:0] are sampled during the ACTIVE command (row address A[12:0]) and READ or WRITE command (column address A[9:0] and A11 for x4; A[9:0] for x8; A[8:0] for x16; with A10 defining auto precharge) to select (See Datasheet)", 34 A9 (in) "Address inputs: A[12:0] are sampled during the ACTIVE command (row address A[12:0]) and READ or WRITE command (column address A[9:0] and A11 for x4; A[9:0] for x8; A[8:0] for x16; with A10 defining auto precharge) to select (See Datasheet)", 35 A11 (in) "Address inputs: A[12:0] are sampled during the ACTIVE command (row address A[12:0]) and READ or WRITE command (column address A[9:0] and A11 for x4; A[9:0] for x8; A[8:0] for x16; with A10 defining auto precharge) to select (See Datasheet)", 36 A12 (in) "Address inputs: A[12:0] are sampled during the ACTIVE command (row address A[12:0]) and READ or WRITE command (column address A[9:0] and A11 for x4; A[9:0] for x8; A[8:0] for x16; with A10 defining auto precharge) to select (See Datasheet)", 37 CKE (in) "Clock enable: CKE activates (HIGH) and deactivates (LOW) the CLK signal. Deactivating the clock provides precharge power-down and SELF REFRESH operation (all banks idle), active power-down (row active in any bank), or CLOCK (See Datasheet)", 38 CLK (in) "Clock: CLK is driven by the system clock. All SDRAM input signals are sampled on the positive edge of CLK. CLK also increments the internal burst counter and controls the output registers.", 39 DQM (in) "Input/output mask: DQM is sampled HIGH and is an input mask signal for write accesses and an output enable signal for read accesses. Input data is masked during a WRITE cycle. The output buffers are High-Z (two-clock (See Datasheet)", 44 DQ2 (io) "Data input/output: Data bus for x4.", 50 DQ3 (io) "Data input/output: Data bus for x4."
part B pins: 1 VDD (power) "Power supply: +3.3V +/-0.3V.", 3 VDDQ (power) "DQ power: DQ power to the die for improved noise immunity.", 6 VSSQ (power) "DQ ground: DQ ground to the die for improved noise immunity.", 9 VDDQ (power) "DQ power: DQ power to the die for improved noise immunity.", 12 VSSQ (power) "DQ ground: DQ ground to the die for improved noise immunity.", 14 VDD (power) "Power supply: +3.3V +/-0.3V.", 27 VDD (power) "Power supply: +3.3V +/-0.3V.", 28 VSS (power) "Ground.", 41 VSS (power) "Ground.", 43 VDDQ (power) "DQ power: DQ power to the die for improved noise immunity.", 46 VSSQ (power) "DQ ground: DQ ground to the die for improved noise immunity.", 49 VDDQ (power) "DQ power: DQ power to the die for improved noise immunity.", 52 VSSQ (power) "DQ ground: DQ ground to the die for improved noise immunity.", 54 VSS (power) "Ground."
part C pins: 2 NC "These should be left unconnected. For x4 and x8 parts, G1 is a no connect, but may be used as A12 in future designs.", 4 NC "These should be left unconnected. For x4 and x8 parts, G1 is a no connect, but may be used as A12 in future designs.", 7 NC "These should be left unconnected. For x4 and x8 parts, G1 is a no connect, but may be used as A12 in future designs.", 8 NC "These should be left unconnected. For x4 and x8 parts, G1 is a no connect, but may be used as A12 in future designs.", 10 NC "These should be left unconnected. For x4 and x8 parts, G1 is a no connect, but may be used as A12 in future designs.", 13 NC "These should be left unconnected. For x4 and x8 parts, G1 is a no connect, but may be used as A12 in future designs.", 15 NC "These should be left unconnected. For x4 and x8 parts, G1 is a no connect, but may be used as A12 in future designs.", 40 NC "These should be left unconnected. For x4 and x8 parts, G1 is a no connect, but may be used as A12 in future designs.", 42 NC "These should be left unconnected. For x4 and x8 parts, G1 is a no connect, but may be used as A12 in future designs.", 45 NC "These should be left unconnected. For x4 and x8 parts, G1 is a no connect, but may be used as A12 in future designs.", 47 NC "These should be left unconnected. For x4 and x8 parts, G1 is a no connect, but may be used as A12 in future designs.", 48 NC "These should be left unconnected. For x4 and x8 parts, G1 is a no connect, but may be used as A12 in future designs.", 51 NC "These should be left unconnected. For x4 and x8 parts, G1 is a no connect, but may be used as A12 in future designs.", 53 NC "These should be left unconnected. For x4 and x8 parts, G1 is a no connect, but may be used as A12 in future designs."